# Altium footprint library rcl.PCBLIB: 487 footprints (part 27 of 31)
Each footprint in its own frame and in the unit in brackets; x right, y up, seen from the top. Pads: shape width x height; smd on the part's side, far side on the other; paste and mask are expansions set on the pad; w line width, h text height; cw(c..) or ccw(c..) is an arc to the next point about the centre after c.
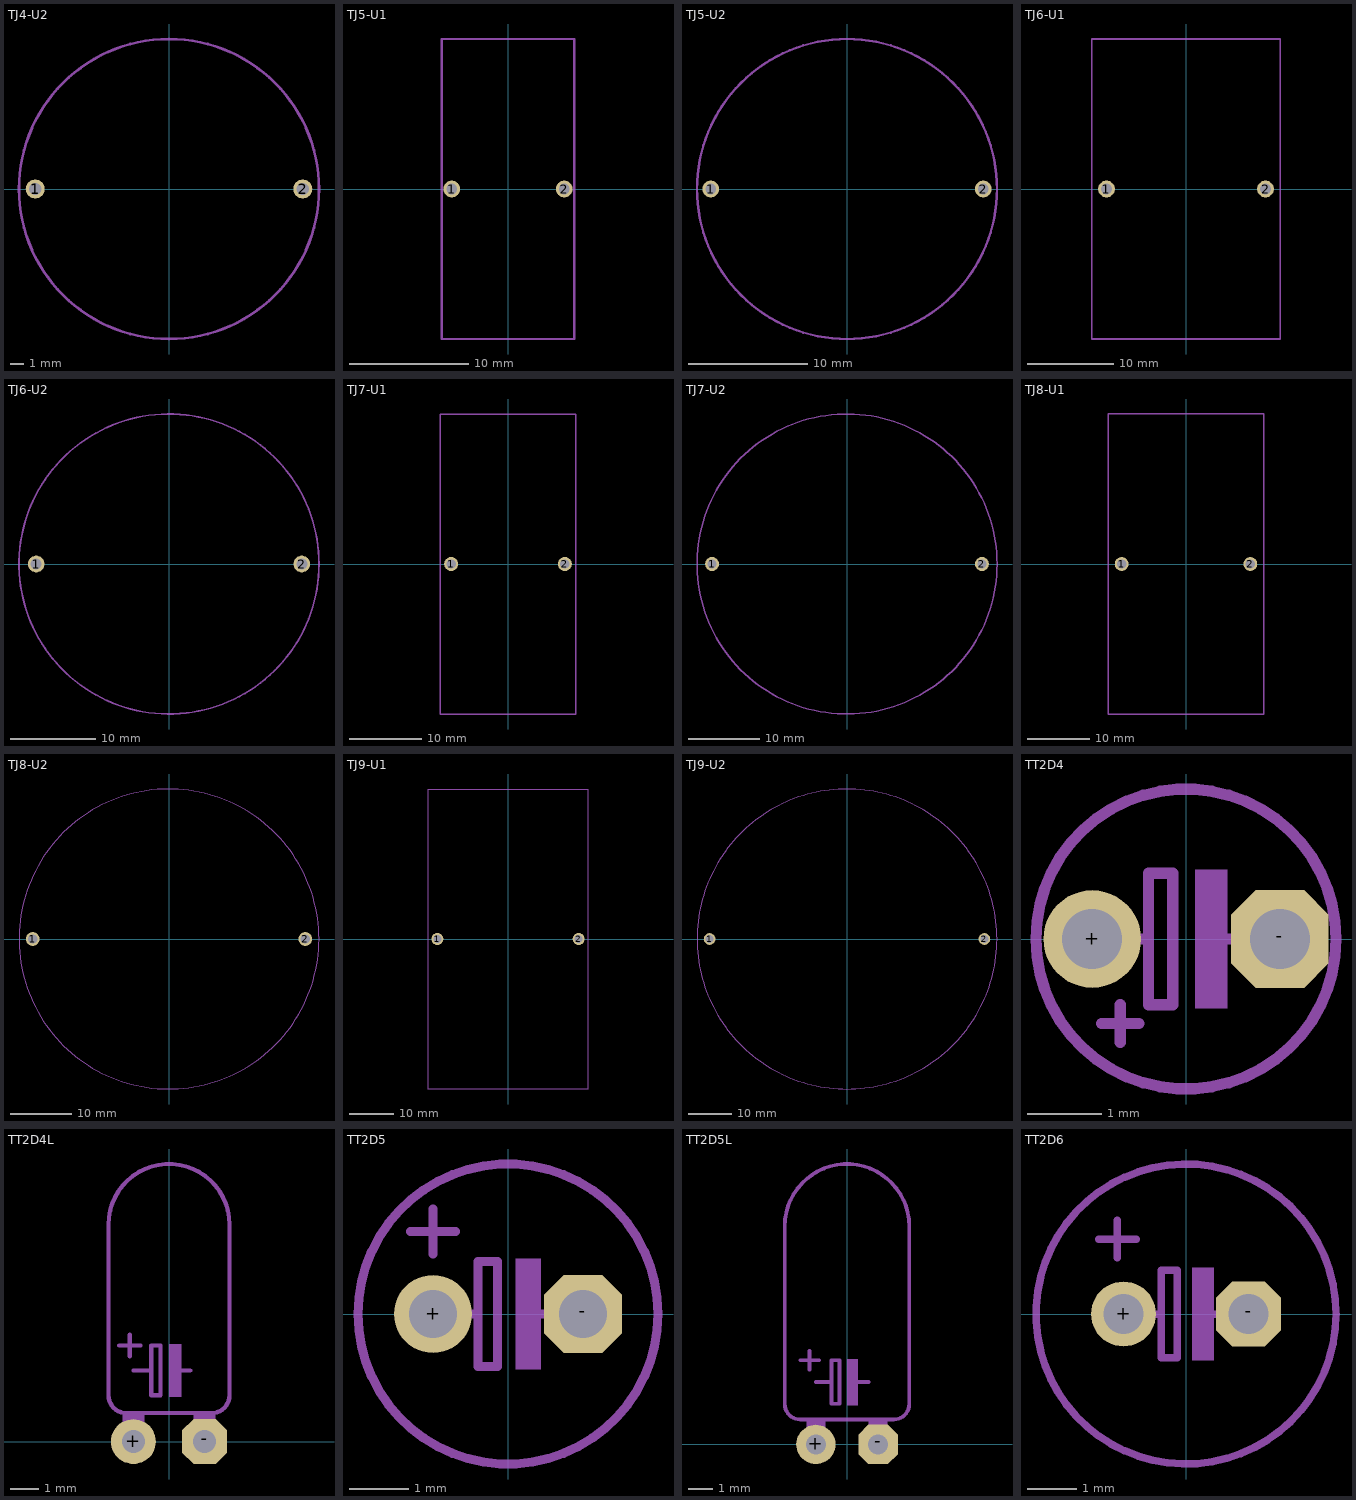
[diagram p26: the footprints below, top view; thin cyan lines are the x and y axes]

## TJ4-U2 [mil]
pads (2):
  round 55.43 hole 35.43: 1(-389.76,0) 2(389.76,0)
tValues:
  circle w8: c0,0 r437.01

## TJ5-U1 [mm]
pads (2):
  round 1.408 hole 0.9: 1(-4.7,0) 2(4.7,0)
tPlace:
  lines w0.203: -5.55,-12.55 5.55,-12.55 5.55,12.55 -5.55,12.55 -5.55,-12.55

## TJ5-U2 [mil]
pads (2):
  round 55.43 hole 35.43: 1(-450.79,0) 2(450.79,0)
tValues:
  circle w8: c0,0 r496.06

## TJ6-U1 [mil]
pads (2):
  round 76.77 hole 51.18: 1(-364.17,0) 2(364.17,0)
tPlace:
  lines w8: -431.1,-687.01 431.1,-687.01 431.1,687.01 -431.1,687.01 -431.1,-687.01

## TJ6-U2 [mil]
pads (2):
  round 76.77 hole 51.18: 1(-610.24,0) 2(610.24,0)
tValues:
  circle w8: c0,0 r688.98

## TJ7-U1 [mil]
pads (2):
  round 76.77 hole 51.18: 1(-311.02,0) 2(311.02,0)
tPlace:
  lines w8: -372.05,-820.87 372.05,-820.87 371.26,820.87 -372.05,820.87 -372.05,-820.87

## TJ7-U2 [mil]
pads (2):
  round 76.77 hole 51.18: 1(-740.16,0) 2(740.16,0)
tValues:
  circle w8: c0,0 r822.83

## TJ8-U1 [mil]
pads (2):
  round 88.59 hole 59.06: 1(-409.45,0) 2(409.45,0)
tPlace:
  lines w8: -494.09,-954.72 494.09,-954.72 494.09,954.72 -494.09,954.72 -494.09,-954.72

## TJ8-U2 [mil]
pads (2):
  round 88.59 hole 59.06: 1(-879.92,0) 2(879.92,0)
tValues:
  circle w8: c0,0 r968.5

## TJ9-U1 [mil]
pads (2):
  round 106.31 hole 70.87: 1(-625.98,0) 2(625.98,0)
tPlace:
  lines w8: -706.69,-1328.74 706.69,-1328.74 706.69,1328.74 -706.69,1328.74 -706.69,-1328.74

## TJ9-U2 [mil]
pads (2):
  round 106.31 hole 70.87: 1(-1244.09,0) 2(1244.09,0)
tValues:
  circle w8: c0,0 r1358.27

## TT2D4 [mil]
pads (2):
  round 52 hole 32: +(-50,0)
  oct 52x52 / inner round 48.04 / far side oct 52x52 hole 32: -(50,0)
tDocu:
  region: 5,-37 5,37 22,37 22,-37
  lines w6: -66.87,-43.91 cw(c0,0) -66.87,43.91 ; -40,0 -20,0 ; 20,0 40,0 ; 66.87,-43.91 ccw(c0,0) 66.87,43.91 ; -20,0 -20,-35 -7,-35 -7,35 -20,35 -20,0
tPlace:
  lines w6: -66.87,-43.91 ccw(c0,0) 66.87,-43.91 ; -66.87,43.91 cw(c0,0) 66.87,43.91 ; -45,-45 -25,-45 ; -35,-55 -35,-35

## TT2D4L [mil]
pads (2):
  round 63 hole 32: +(-50,0)
  oct 63x63 / inner round 58.2 / far side oct 63x63 hole 32: -(50,0)
tDocu:
  region: -65,25 -65,40 -35,40 -35,25
  region: 35,25 35,40 65,40 65,25
  region: 35,-5 35,25 65,25 65,-5
  region: -65,-5 -65,25 -35,25 -35,-5
tPlace:
  region: 0,63 0,137 17,137 17,63
  lines w6: -70,135 -40,135 ; -55,120 -55,150 ; -50,100 -25,100 ; 10,100 30,100 ; -25,100 -25,65 -12,65 -12,135 -25,135 -25,100 ; -85,65 ccw(c-60,65) -60,40 60,40 ccw(c60,65) 85,65 85,305 ccw(c0,305) -85,305 -85,65
  text "TT" at 75,70 h60.45

## TT2D5 [mil]
pads (2):
  round 52 hole 32: +(-50,0)
  oct 52x52 / inner round 48.04 / far side oct 52x52 hole 32: -(50,0)
tDocu:
  region: 5,-37 5,37 22,37 22,-37
  lines w6: -40,0 -20,0 ; 20,0 40,0 ; -20,0 -20,-35 -7,-35 -7,35 -20,35 -20,0
tPlace:
  circle w6: c0,0 r100
  lines w6: -65,55 -35,55 ; -50,40 -50,70
  text "TT" at -30,-85 h60.45

## TT2D5L [mil]
pads (2):
  round 63 hole 32: +(-50,0)
  oct 63x63 / inner round 58.2 / far side oct 63x63 hole 32: -(50,0)
tDocu:
  region: -65,25 -65,40 -35,40 -35,25
  region: 35,25 35,40 65,40 65,25
  region: 35,-5 35,25 65,25 65,-5
  region: -65,-5 -65,25 -35,25 -35,-5
tPlace:
  region: 0,63 0,137 17,137 17,63
  lines w6: -75,135 -45,135 ; -60,120 -60,150 ; -50,100 -25,100 ; 15,100 35,100 ; -25,100 -25,65 -12,65 -12,135 -25,135 -25,100 ; -100,65 -100,350 cw(c0,350) 100,350 100,65 cw(c75,65) 75,40 -75,40 cw(c-75,65) -100,65
  text "TT" at 90,65 h60.45

## TT2D6 [mil]
pads (2):
  round 52 hole 32: +(-50,0)
  oct 52x52 / inner round 48.04 / far side oct 52x52 hole 32: -(50,0)
tDocu:
  region: 5,-37 5,37 22,37 22,-37
  lines w6: -40,0 -20,0 ; 20,0 40,0 ; -20,0 -20,-35 -7,-35 -7,35 -20,35 -20,0
tPlace:
  circle w6: c0,0 r120
  lines w6: -70,60 -40,60 ; -55,45 -55,75
  text "TT" at 10,-90 h60.45